# Altium schematic symbol library PassiveSymbols.SchLib: 2 symbols
Pins are listed as number, name and electrical type; pins without a type are passive.

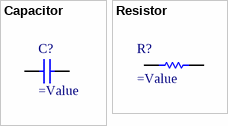
[diagram p0: symbols Capacitor to Resistor]

## Capacitor
designator C?
pins: 1, 2
1 alternate drawing of the same symbol

## Resistor
designator R?
pins: 1, 2